# Altium schematic symbol library LTM-2405.SCHLIB: 26 symbols
Pins are listed as number, name and electrical type; pins without a type are passive.

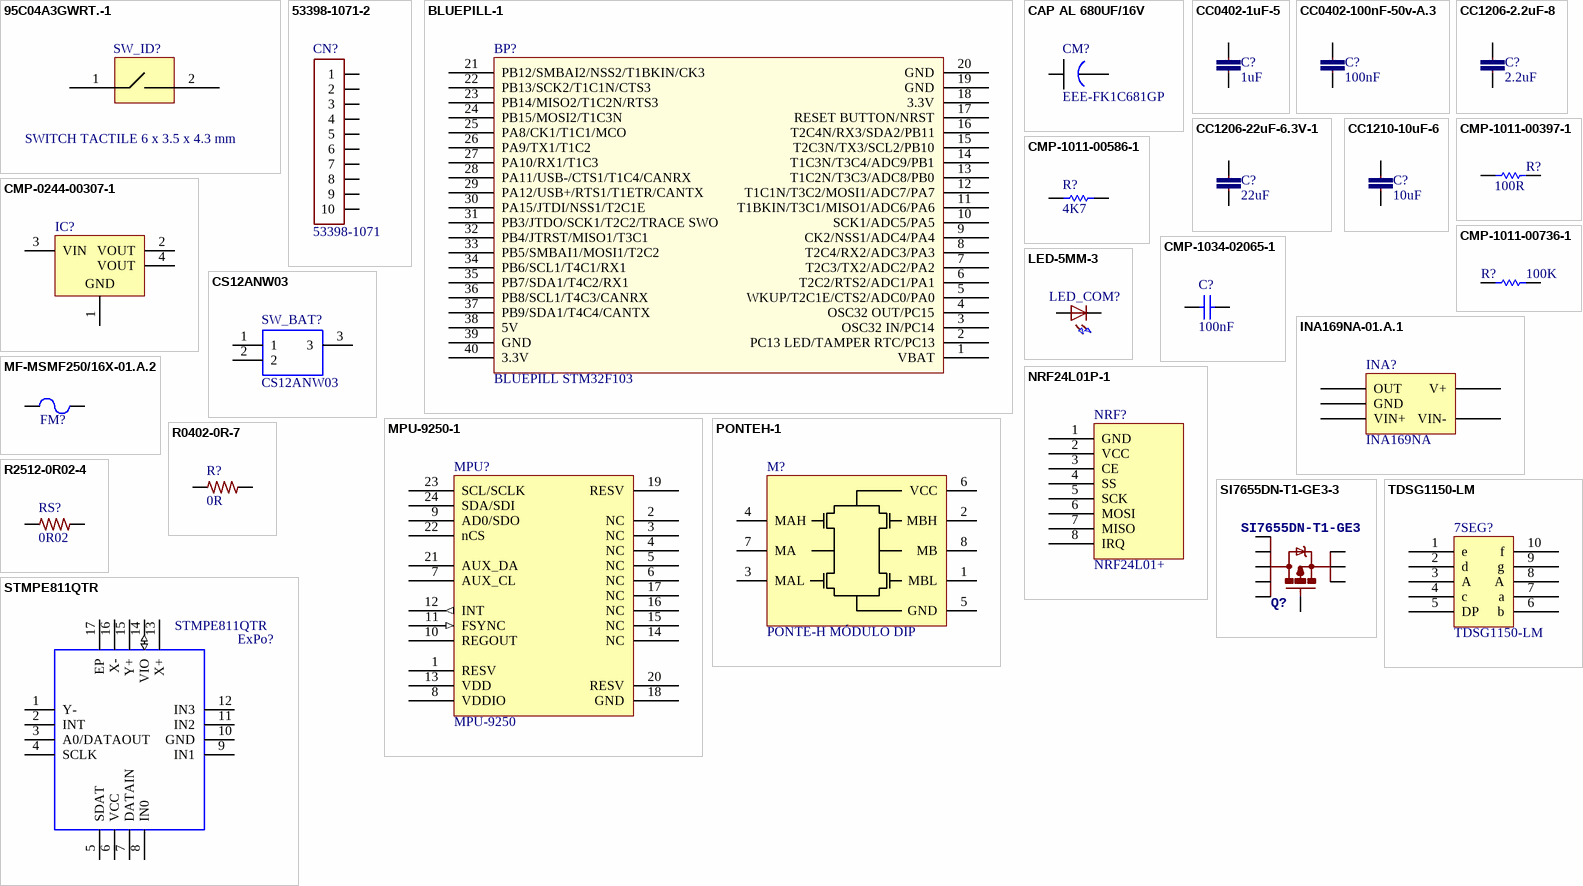
[diagram p0: symbols 95C04A3GWRT.-1 to TDSG1150-LM]

## 95C04A3GWRT.-1
designator SW_ID?, comment SWITCH TACTILE 6 x 3.5 x 4.3 mm
GRAYHILL TACT,GW,6X3.5,1800T&R,LF Eight, 160g Operating Force, Gull Wing, RoHS Compliant; Part No: 95C04A3GWRT
footprint PCBComponent
pins: 1, 2

## 53398-1071-2
designator CN?, comment 53398-1071
CONN HEADER 10POS 1.25MM VRT SMD; Cod EMS: 05.285.005.202; Part No: 53398-1071
footprint 53398-10
pins: 1, 2, 3, 4, 5, 6, 7, 8, 9, 10

## BLUEPILL-1
designator BP?, comment BLUEPILL STM32F103
STM32 Blue Pill Development Module
footprint BLUEPILL-PCB
pins: 1 VBAT, 2 PC13 LED/TAMPER RTC/PC13, 3 OSC32 IN/PC14, 4 OSC32 OUT/PC15, 5 WKUP/T2C1E/CTS2/ADC0/PA0, 6 T2C2/RTS2/ADC1/PA1, 7 T2C3/TX2/ADC2/PA2, 8 T2C4/RX2/ADC3/PA3, 9 CK2/NSS1/ADC4/PA4, 10 SCK1/ADC5/PA5, 11 T1BKIN/T3C1/MISO1/ADC6/PA6, 12 T1C1N/T3C2/MOSI1/ADC7/PA7, 13 T1C2N/T3C3/ADC8/PB0, 14 T1C3N/T3C4/ADC9/PB1, 15 T2C3N/TX3/SCL2/PB10, 16 T2C4N/RX3/SDA2/PB11, 17 RESET BUTTON/NRST, 18 3.3V, 19 GND, 20 GND, 21 PB12/SMBAI2/NSS2/T1BKIN/CK3, 22 PB13/SCK2/T1C1N/CTS3, 23 PB14/MISO2/T1C2N/RTS3, 24 PB15/MOSI2/T1C3N, 25 PA8/CK1/T1C1/MCO, 26 PA9/TX1/T1C2, 27 PA10/RX1/T1C3, 28 PA11/USB-/CTS1/T1C4/CANRX, 29 PA12/USB+/RTS1/T1ETR/CANTX, 30 PA15/JTDI/NSS1/T2C1E, 31 PB3/JTDO/SCK1/T2C2/TRACE SWO, 32 PB4/JTRST/MISO1/T3C1, 33 PB5/SMBAI1/MOSI1/T2C2, 34 PB6/SCL1/T4C1/RX1, 35 PB7/SDA1/T4C2/RX1, 36 PB8/SCL1/T4C3/CANRX, 37 PB9/SDA1/T4C4/CANTX, 38 5V, 39 GND, 40 3.3V

## CAP AL 680UF/16V
designator CM?, comment EEE-FK1C681GP
Aluminum Electrolytic Capacitors - SMD Al Lytic Cap SMT FK Series 105C
footprint H_BRIDGE_BREAKOUT
footprint EEE-FK1C681GP (Aluminum Electrolytic Capacitor, Body 10,30x10,30x10,50mm, IPC Low Density)
pins: 1, 2

## CC0402-1uF-5
designator C?, comment 1uF
CAP CER 1UF 6.3V 10% X5R 0402; Part No: JMK105BJ105KV-F; Cod EMS: 05.281.019.513; Value: 1u
footprint 0402-CAP (Chip Capacitor, Body 1.0x0.5mm, Height 0.6mm, IPC Medium Density)
simulation model Capacitor
pins: 1, 2

## CC0402-100nF-50v-A.3
designator C?, comment 100nF
CAP CER 0.1UF 50V 10% X7R 0402; Part No: C1005X7R1H104K050BB; Cod EMS: 05.281.019.021; Value: 100n
footprint 0402-CAP (Chip Capacitor, Body 1.0x0.5mm, Height 0.6mm, IPC Medium Density)
simulation model Capacitor
pins: 1, 2

## CC1206-2.2uF-8
designator C?, comment 2.2uF
CAP CER 2.2UF 50V X7R 1206; Part No: UMK316B7225KL-T; Cod EMS: 05.281.019.572; Value: 2.2u
footprint 1206-CAP (Chip Capacitor, Body 3.2x1.6mm, Height 1.7mm, IPC Low Density)
simulation model Capacitor
pins: 1, 2

## CC1206-22uF-6.3V-1
designator C?, comment 22uF
CAP CER 22UF 6.3V 20% X5R 1206; Part No: C3216X5R0J226M085AC; Value: 22u; Rule: UNIONINDEX{}0[]RULEKIND{}PolygonConnect[]NETSCOPE{}AnyNet[]LAYERKIND{}SameLayer[]NAME{}Schematic Polygon Connect Style[]CONNECTSTYLE{}Direct[]RELIEFCONDUCTORWIDTH{}10mil[]RELIEFENTRIES{}4[]POLYGONRELIEFANGLE{}45 Angle[]AIRGAPWIDTH{}10mil[]UNIT{}Imperial[]PcbType{}ProtelPcb
footprint 1206-CAP (Chip Capacitor, Body 3.2x1.6mm, Height 1.7mm, IPC Low Density)
simulation model Capacitor
pins: 1, 2

## CC1210-10uF-6
designator C?, comment 10uF
CAP CER 10UF 50V 20% X5R 1210; Part No: UMK325BJ106MM; value: 10u; Cod EMS: 05.281.019.522
footprint 1210-CAP (Chip Capacitor, Body 3.2x2.5mm, Height 2.8mm, IPC Medium Density.)
simulation model Capacitor
pins: 1, 2

## CMP-0244-00307-1
designator IC?, comment LD1117S33CTR  (value not drawn)
Fixed Low Drop Positive Voltage Regulator, 3.3V, 4-Pin SOT-223, Tape and Reel; Manufacturer: STMicroelectronics; ComponentLink1URL: http://www.st.com; PackageVersion: 2010; ComponentLink1Description: Manufacturer URL; DatasheetVersion: 1/11/2011; ComponentLink2URL: http://www.st.com/internet/com/TECHNICAL_RESOURCES/TECHNICAL_LITERATURE/DATASHEET/CD00000544.pdf; PackageReference: SOT-223; ComponentLink2Description: Datasheet; PackageDescription: 4-Pin SOT-223 Package, 6.5 x 3.5 mm Body, 2.3 mm Pitch, 7 mm Lead Span; Manufacturer Part Number: LD1117S33CTR
footprint SOT-223_N (SOT223, 4-Leads, Body 6.5x3.5mm, Pitch 2.3mm, Lead Span 7mm, IPC Medium Density)
footprint SOT-223_M (SOT223, 4-Leads, Body 6.5x3.5mm, Pitch 2.3mm, Lead Span 7mm, IPC Low Density)
footprint SOT-223_L (SOT223, 4-Leads, Body 6.5x3.5mm, Pitch 2.3mm, Lead Span 7mm, IPC High Density)
pins: 1 GND (power), 2 VOUT (power), 3 VIN (power), 4 VOUT (power)

## CMP-1011-00397-1
designator R?, comment 100R
100R 0.063W 1% 0402 (1005 Metric)  SMD; Manufacturer: Vishay Dale; Manufacturer Part Number: CRCW0402100RFKED; Manufacturer: Yageo; Manufacturer Part Number: RC0402FR-07100RL; Manufacturer: Panasonic; Manufacturer Part Number: ERJ-2RKF1000X; Manufacturer Part Number: CRCW0402100RFKTD; Manufacturer: Bourns; Manufacturer Part Number: CR0402-FX-1000GLF; Case-EIA: 0402; Case-Metric: 1005; Value: 100.00 Ohm; Technology: SMT; Tolerance: 1 %; Power: 0.063 W
footprint RESC0402(1005)_L (Chip Resistor, Body 1.0x0.5mm, IPC High Density)
footprint RESC0402(1005)_N (Chip Resistor, Body 1.0x0.5mm, IPC Medium Density)
footprint RESC0402(1005)_M (Chip Resistor, Body 1.0x0.5mm, IPC Low Density)
pins: 1, 2
1 alternate drawing of the same symbol

## CMP-1011-00586-1
designator R?, comment 4K7
4K7 0.063W 1% 0402 (1005 Metric)  SMD; Manufacturer: Yageo; Manufacturer Part Number: RC0402FR-074K7L; Manufacturer: Vishay; Manufacturer Part Number: CRCW04024K70FKED; Manufacturer: Vishay Dale; Manufacturer Part Number: CRCW04024K70FKTD; Manufacturer: Panasonic; Manufacturer Part Number: ERJ-2RKF4701X; Manufacturer: Bourns; Manufacturer Part Number: CR0402-FX-4701GLF; Case-Metric: 1005; Value: 4700.00 Ohm; Case-EIA: 0402; Power: 0.063 W; Technology: SMT; Tolerance: 1 %
footprint RESC0402(1005)_L (Chip Resistor, Body 1.0x0.5mm, IPC High Density)
footprint RESC0402(1005)_N (Chip Resistor, Body 1.0x0.5mm, IPC Medium Density)
footprint RESC0402(1005)_M (Chip Resistor, Body 1.0x0.5mm, IPC Low Density)
pins: 1, 2
1 alternate drawing of the same symbol

## CMP-1011-00736-1
designator R?, comment 100K
100K 0.063W 1% 0402 (1005 Metric)  SMD; Manufacturer: Vishay Dale; Manufacturer Part Number: CRCW0402100KFKTD; Manufacturer: Vishay; Manufacturer Part Number: CRCW0402100KFKED; Manufacturer Part Number: CRCW0402100KFKEE; Manufacturer: Yageo; Manufacturer Part Number: RC0402FR-07100KL; Manufacturer: Panasonic; Manufacturer Part Number: ERJ-2RKF1003X; Manufacturer: Bourns; Manufacturer Part Number: CR0402-FX-1003GLF; Value: 100000.00 Ohm; Case-EIA: 0402; Case-Metric: 1005; Power: 0.063 W; Tolerance: 1 %; Technology: SMT
footprint RESC0402(1005)_L (Chip Resistor, Body 1.0x0.5mm, IPC High Density)
footprint RESC0402(1005)_N (Chip Resistor, Body 1.0x0.5mm, IPC Medium Density)
footprint RESC0402(1005)_M (Chip Resistor, Body 1.0x0.5mm, IPC Low Density)
pins: 1, 2
1 alternate drawing of the same symbol

## CMP-1034-02065-1
designator C?, comment 100nF
CAP 100nF 10V ±10% 0402 (1005 Metric) Thickness 0.6mm SMD; Manufacturer: Yageo; Manufacturer Part Number: CC0402KRX5R6BB104; Manufacturer: KEMET; Manufacturer Part Number: C0402C104K8PAC; Manufacturer Part Number: CC0402KRX7R6BB104; Manufacturer: Murata; Manufacturer Part Number: GRM155R71A104KA01D; Manufacturer: TDK; Manufacturer Part Number: C1005X5R1A104K; Manufacturer Part Number: C0402C104K8RAC; Manufacturer: Vishay Vitramon; Manufacturer Part Number: VJ0402G104KXQPW1BC; Manufacturer: Kyocera AVX; Manufacturer Part Number: 0402ZD104KAT2A; Manufacturer Part Number: C0402C104K8PACTU; Manufacturer: Vishay Semiconductors; Manufacturer Part Number: VJ0402Y104KXQPW1BC; Manufacturer Part Number: C1005X7R1A104K; Manufacturer: Vishay; Manufacturer Part Number: VJ0402G104KXQCW1BC; Manufacturer Part Number: C0402C104K8RACTU; Manufacturer Part Number: 0402ZD104KAT4A; Manufacturer Part Number: VJ0402Y104KXQCW1BC; Manufacturer Part Number: CC0402KPX7R6BB104; Case-EIA: 0402; Case-Metric: 1005; Tolerance: Â±10%; Max Thickness: 0.6 mm; Value: 100nF; Rated Voltage: 10 V; Technology: SMT
footprint CAPC0402(1005)60_N (Chip Capacitor, Body 1.0x0.5mm, Height 0.6mm, IPC Medium Density)
footprint CAPC0402(1005)60_M (Chip Capacitor, Body 1.0x0.5mm, Height 0.6mm, IPC Low Density)
footprint CAPC0402(1005)60_L (Chip Capacitor, Body 1.0x0.5mm, Height 0.6mm, IPC High Density)
pins: 1, 2
1 alternate drawing of the same symbol

## CS12ANW03
designator SW_BAT?
NKK SWITCHES - CS12ANW03 - SWITCH, SLIDE, SPDT, 3A, 250V, TH; Allied_Number: 70228233; Manufacturer_Name: NKK Switches; Manufacturer_Part_Number: CS12ANW03; RS Part Number: 1251847; RS Price/Stock: http://uk.rs-online.com/web/p/products/1251847; Allied Price/Stock: https://www.alliedelec.com/nkk-switches-cs12anw03/70228233/; Arrow Part Number: CS12ANW03; Arrow Price/Stock: https://www.arrow.com/en/products/cs12anw03/nkk-switches; Datasheet Link: http://www.nkkswitches.com/pdf/cs.pdf
footprint CS12ANW03
pins: 1, 2, 3

## INA169NA-01.A.1
designator INA?, comment INA169NA
IC CURRENT MONITOR 0.5% SOT23-5
footprint SOT95P280X125-5N
pins: 1 OUT, 2 GND, 3 VIN+, 4 V+, 5 VIN-

## LED-5MM-3
designator LED_COM?, comment LED  (value not drawn)
LED 5MM PTH
footprint LED-5MM-PCB
pins: 1 K, 2 A

## MF-MSMF250/16X-01.A.2
designator FM?, comment MF-MSMF030-2CT-ND  (value not drawn)
FUSE PTC RESETTBL .30A 30V 1812
footprint RESC4632X16N (PTC RESETTABLE)
pins: 1, 2

## MPU-9250-1
designator MPU?, comment MPU-9250
IMU ACCEL/GYRO/MAG I2C/SPI 24QFN; Part No: MPU-9250
footprint MPU-9250 (IMU ACCEL/GYRO/MAG I2C/SPI 24QFN)
pins: 1 RESV, 2 NC, 3 NC, 4 NC, 5 NC, 6 NC, 7 AUX_CL, 8 VDDIO (power), 9 AD0/SDO, 10 REGOUT, 11 FSYNC (in), 12 INT (out), 13 VDD (power), 14 NC, 15 NC, 16 NC, 17 NC, 18 GND (power), 19 RESV, 20 RESV, 21 AUX_DA, 22 nCS, 23 SCL/SCLK, 24 SDA/SDI

## NRF24L01P-1
designator NRF?, comment NRF24L01+
Packaging: Tray
footprint NRF24L01P-PCB
pins: 1 GND, 2 VCC, 3 CE, 4 SS, 5 SCK, 6 MOSI, 7 MISO, 8 IRQ

## PONTEH-1
designator M?, comment PONTE-H MÓDULO DIP
MÓDULO PONTE H DIP ROBOIME
footprint PONTEH-PCB
pins: 1 MBL, 2 MBH, 3 MAL, 4 MAH, 5 GND, 6 VCC, 7 MA, 8 MB

## R0402-0R-7
designator R?, comment 0R
RES 0.0 OHM 1/16W JUMP 0402 SMD; Part No: CRCW04020000Z0ED; Cod EMS: 05.280.029.528; Value: 0
footprint 0402-RES-HD (Chip Resistor, Body 1.0x0.5mm, IPC High Density)
simulation model SimModel1
pins: 1, 2

## R2512-0R02-4
designator RS?, comment 0R02
RES .02 OHM 2W 1% 2512 SMD; Part No: WSL2512R0200FEA18; Cod EMS: 05.280.029.529; Value: 0.02; Family Description: RESISTOR SENTIDO DE CORRENTE 0,010R-0,040R/ 2W / 1% / 2512 P/N: WSL2512.....FEA18 – VISHAY DALE.; Family: WSL2512.....FEA18
footprint 2512-RES-HD (Chip Resistor, Body 6.4x3.2mm, IPC High Density)
simulation model SimModel1
pins: 1, 2

## SI7655DN-T1-GE3-3
designator Q?, comment SI7655DN-T1-GE3
MOSFET P-CH 20V D-S PPAK 1212; Cod EMS: 05.284.001.520; Part No: SI7655DN-T1-GE3
footprint SON8 (SON, 8-Leads, Body 3x3mm, Pitch 0.65mm, Thermal Pad 2.3x1.5mm, Recommended)
pins: 1 S, 2 S, 3 S, 4 G, 5 D, 6 D, 7 D, 8 D, 9 D

## STMPE811QTR
designator ExPo?
Interface - I/O Expanders 8-BIT PORT EXPANDER W/ADV TOUCHSCREEN; Manufacturer_Name: STMicroelectronics; Geometry.Height: 1mm; Manufacturer_Part_Number: STMPE811QTR; RS Part Number: 1658056; RS Price/Stock: http://uk.rs-online.com/web/p/products/1658056; Arrow Part Number: STMPE811QTR; Arrow Price/Stock: https://www.arrow.com/en/products/stmpe811qtr/stmicroelectronics; Datasheet Link: http://docs-europe.electrocomponents.com/webdocs/0edc/0900766b80edc3b7.pdf
footprint QFN50P300X300X100-17N-D
pins: 1 Y-, 2 INT, 3 A0/DATAOUT, 4 SCLK, 5 SDAT, 6 VCC (power), 7 DATAIN, 8 IN0, 9 IN1, 10 GND, 11 IN2, 12 IN3, 13 X+, 14 VIO (io), 15 Y+, 16 X-, 17 EP

## TDSG1150-LM
designator 7SEG?
footprint 7seg-pcb
pins: 1 e, 2 d, 3 A, 4 c, 5 DP, 6 b, 7 a, 8 A, 9 g, 10 f